# EAGLE library part HN1622HF (library HokyoParts)
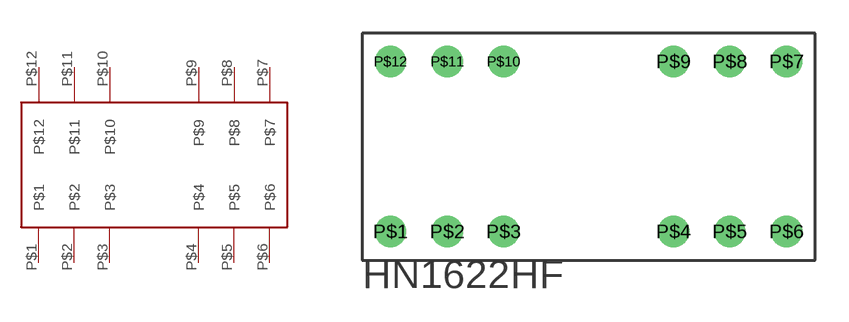
[diagram p1: symbol with the pads of HN1622HF; footprint HN1622HF]

Designator prefix -

## HN1622HF  [HN1622HF]
P$1  P$1
P$2  P$2
P$3  P$3
P$4  P$4
P$5  P$5
P$6  P$6
P$7  P$7
P$8  P$8
P$9  P$9
P$10  P$10
P$11  P$11
P$12  P$12

## Footprint HN1622HF (pad centres in mm)
drill 0.9: P$1 0,0; P$2 2.55,0; P$3 5.075,0; P$4 12.7,0; P$5 15.225,0; P$6 17.775,0; P$7 17.775,7.625; P$8 15.225,7.625; P$9 12.7,7.625; P$10 5.075,7.625; P$11 2.55,7.625; P$12 0,7.625